# EAGLE library part MEGA128 (library breakout)
Octopus USB multi-I/O board http://www.embedded-projects.net/octopus
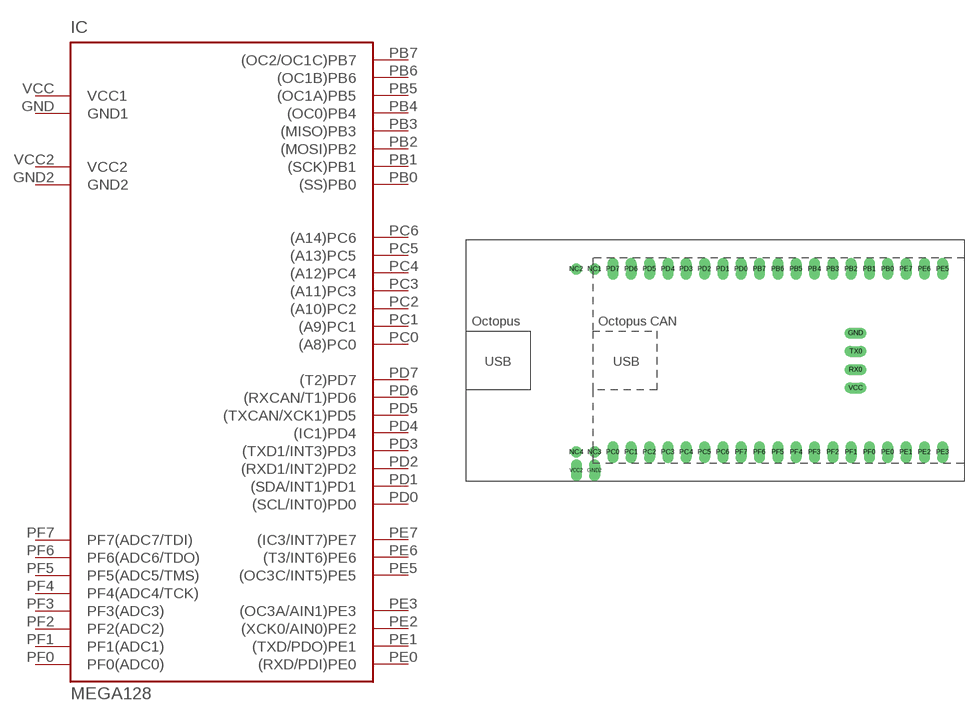
[diagram p0: symbol with the pads of OCTOPUS; footprint OCTOPUS]

Designator prefix IC

## MEGA128  [OCTOPUS]
GND  GND1
GND2  GND2
PB0  (SS)PB0
PB1  (SCK)PB1
PB2  (MOSI)PB2
PB3  (MISO)PB3
PB4  (OC0)PB4
PB5  (OC1A)PB5
PB6  (OC1B)PB6
PB7  (OC2/OC1C)PB7
PC0  (A8)PC0  out
PC1  (A9)PC1  out
PC2  (A10)PC2  out
PC3  (A11)PC3  out
PC4  (A12)PC4  out
PC5  (A13)PC5  out
PC6  (A14)PC6  out
PD0  (SCL/INT0)PD0
PD1  (SDA/INT1)PD1
PD2  (RXD1/INT2)PD2
PD3  (TXD1/INT3)PD3
PD4  (IC1)PD4
PD5  (TXCAN/XCK1)PD5
PD6  (RXCAN/T1)PD6
PD7  (T2)PD7
PE0  (RXD/PDI)PE0
PE1  (TXD/PDO)PE1
PE2  (XCK0/AIN0)PE2
PE3  (OC3A/AIN1)PE3
PE5  (OC3C/INT5)PE5
PE6  (T3/INT6)PE6
PE7  (IC3/INT7)PE7
PF0  PF0(ADC0)  in
PF1  PF1(ADC1)  in
PF2  PF2(ADC2)  in
PF3  PF3(ADC3)  in
PF4  PF4(ADC4/TCK)  in
PF5  PF5(ADC5/TMS)  in
PF6  PF6(ADC6/TDO)  in
PF7  PF7(ADC7/TDI)  in
VCC  VCC1
VCC2  VCC2

## Footprint OCTOPUS (pad centres in mm)
drill 1 long: GND 19.685,3.81; GND2 -16.51,-15.24; PB0 24.13,12.7; PB1 21.59,12.7; PB2 19.05,12.7; PB3 16.51,12.7; PB4 13.97,12.7; PB5 11.43,12.7; PB6 8.89,12.7; PB7 6.35,12.7; PC0 -13.97,-12.7; PC1 -11.43,-12.7; PC2 -8.89,-12.7; PC3 -6.35,-12.7; PC4 -3.81,-12.7; PC5 -1.27,-12.7; PC6 1.27,-12.7; PD0 3.81,12.7; PD1 1.27,12.7; PD2 -1.27,12.7; PD3 -3.81,12.7; PD4 -6.35,12.7; PD5 -8.89,12.7; PD6 -11.43,12.7; PD7 -13.97,12.7; PE0 24.13,-12.7; PE1 26.67,-12.7; PE2 29.21,-12.7; PE3 31.75,-12.7; PE5 31.75,12.7; PE6 29.21,12.7; PE7 26.67,12.7; PF0 21.59,-12.7; PF1 19.05,-12.7; PF2 16.51,-12.7; PF3 13.97,-12.7; PF4 11.43,-12.7; PF5 8.89,-12.7; PF6 6.35,-12.7; PF7 3.81,-12.7; RX0 19.685,-1.27; TX0 19.685,1.27; VCC 19.685,-3.81; VCC2 -19.05,-15.24
drill 1 round: NC1 -16.51,12.7; NC2 -19.05,12.7; NC3 -16.51,-12.7; NC4 -19.05,-12.7